# EAGLE library part 20021111-00016T4LF (library 2x8_1.27mm)
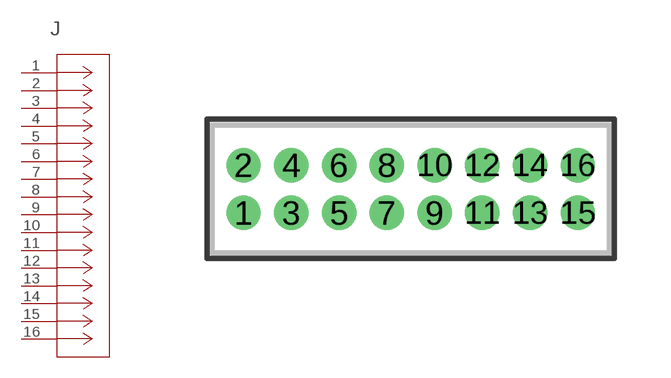
[diagram p0: symbol with the pads of CONN16_016T4LF_AMP; footprint CONN16_016T4LF_AMP]

Designator prefix J

## 20021111-00016T4LF (COPYRIGHT: Copyright (C) 2023 Ultra Librarian. All rights reserved.; MANUFACTURER_PART_NUMBER: 20021111-00016T4LF; MFR_NAME: Amphenol ICC)  [CONN16_016T4LF_AMP]
1  1  pas
2  2  pas
3  3  pas
4  4  pas
5  5  pas
6  6  pas
7  7  pas
8  8  pas
9  9  pas
10  10  pas
11  11  pas
12  12  pas
13  13  pas
14  14  pas
15  15  pas
16  16  pas

## Footprint CONN16_016T4LF_AMP (pad centres in mm)
drill 0.406 pad 0.914: 1 0,0; 2 0,1.27; 3 1.27,0; 4 1.27,1.27; 5 2.54,0; 6 2.54,1.27; 7 3.81,0; 8 3.81,1.27; 9 5.08,0; 10 5.08,1.27; 11 6.35,0; 12 6.35,1.27; 13 7.62,0; 14 7.62,1.27; 15 8.89,0; 16 8.89,1.27